# Altium footprint library Lib Marius.PcbLib: 393 footprints (part 11 of 25)
Each footprint in its own frame and in the unit in brackets; x right, y up, seen from the top. Pads: shape width x height; smd on the part's side, far side on the other; paste and mask are expansions set on the pad; w line width, h text height; cw(c..) or ccw(c..) is an arc to the next point about the centre after c.
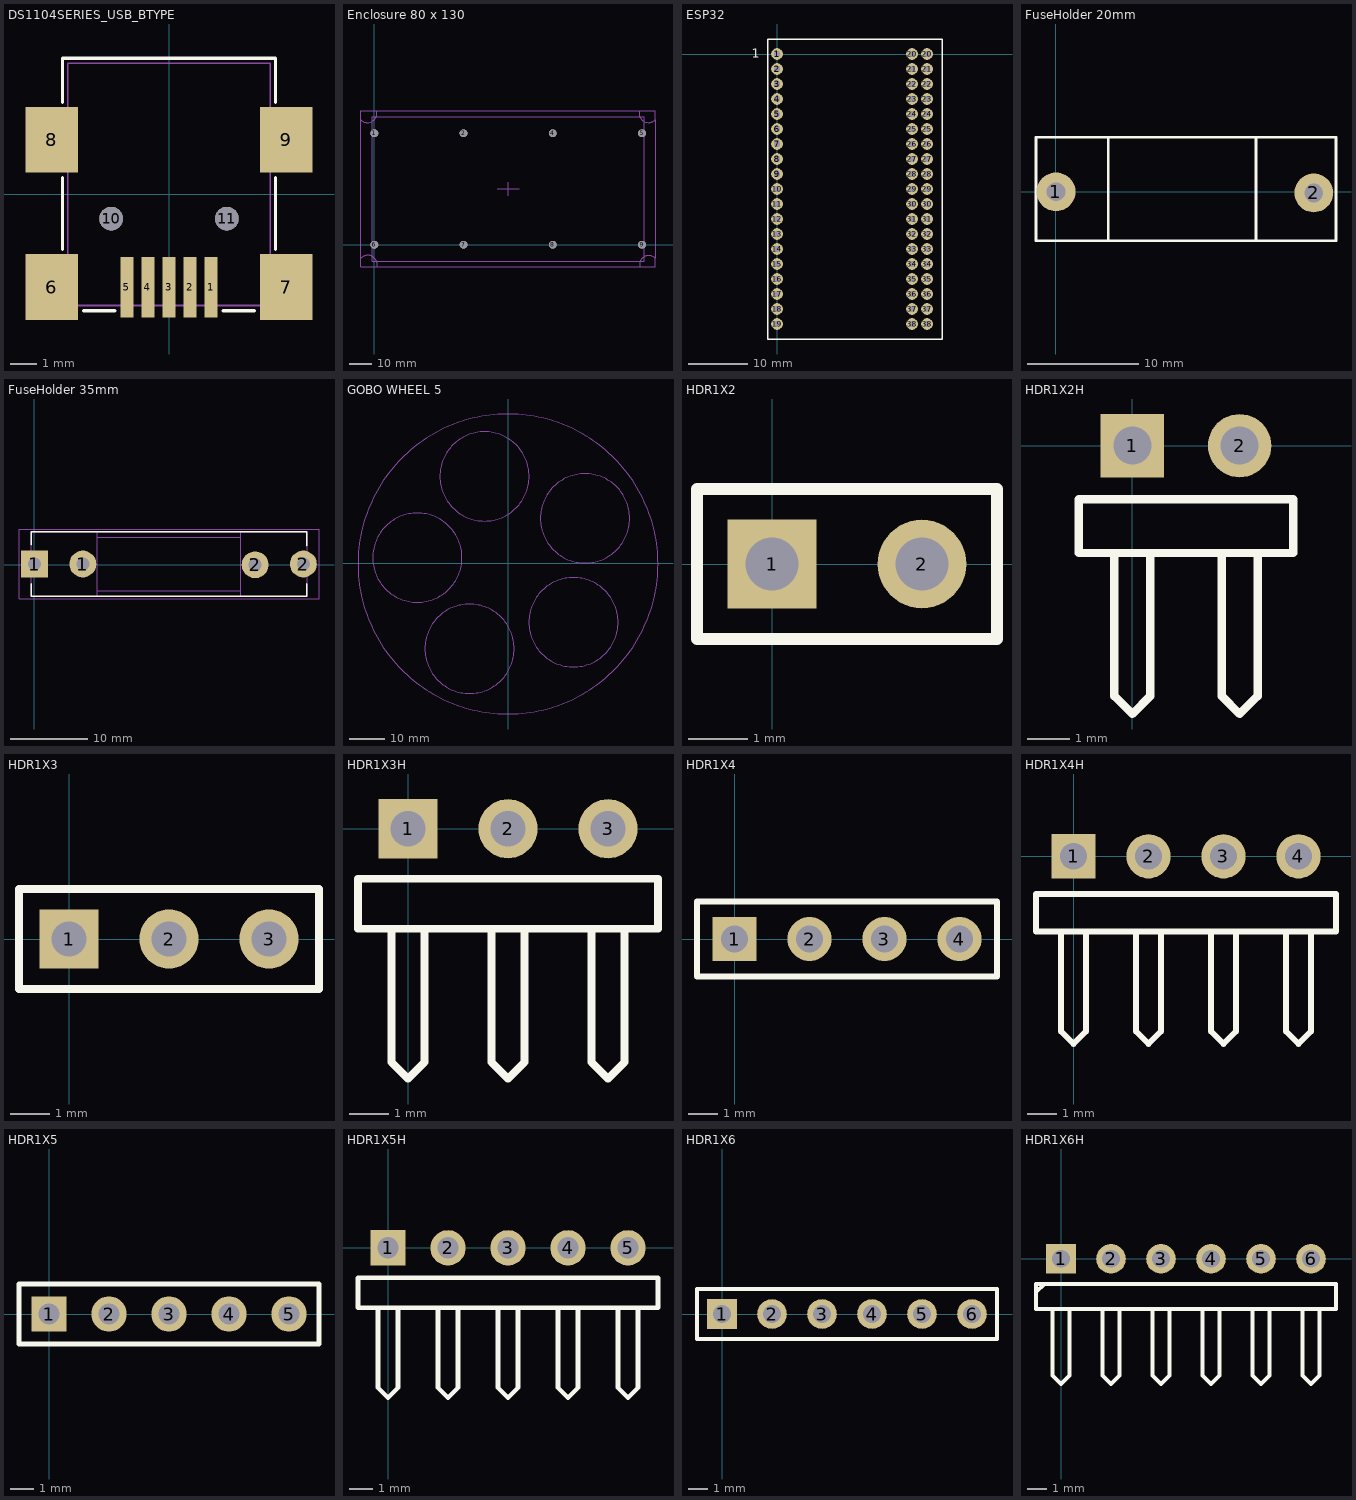
[diagram p10: the footprints below, top view; thin cyan lines are the x and y axes]

## DS1104SERIES_USB_BTYPE [mm]
pads (11):
  rect 0.5x2.3 smd mask+0: 1(1.6,-3.525) 2(0.8,-3.525) 3(0,-3.525) 4(-0.8,-3.525) 5(-1.6,-3.525)
  rect 2x2.5 smd mask+0: 6(-4.45,-3.525) 7(4.45,-3.525) 8(-4.45,2.075) 9(4.45,2.075)
  round 0.9 hole 0.9 unplated mask+0: 10(-2.2,-0.925) 11(2.2,-0.925)
Top Overlay:
  lines w0.127: -4.05,-2.1 -4.05,0.625 ; -4.05,3.5 -4.05,5.175 4.05,5.175 4.05,3.5 ; -3.25,-4.425 -2.05,-4.425 ; 2.05,-4.425 3.25,-4.425 ; 4.05,-2.1 4.05,0.625
Mechanical 13:
  lines w0.065: -3.85,-4.225 -3.85,4.975 3.85,4.975 3.85,-4.225 ; -3.85,-4.225 3.85,-4.225 ; -3.85,-4.225 -4.95,-4.225 -4.95,-3.975 ccw(c-4.95,-3.475) -4.45,-3.475 ccw(c-4.912,-3.437) -4.95,-2.975 -4.95,-2.725 -3.85,-2.725 -3.85,-4.225 ; 3.85,-4.225 3.85,-2.725 4.95,-2.725 4.95,-2.975 ccw(c4.962,-3.487) 4.45,-3.475 ccw(c4.962,-3.463) 4.95,-3.975 4.95,-4.225 3.85,-4.225 ; -4.95,1.275 -4.95,1.575 ccw(c-4.925,2) -4.5,2.025 ccw(c-4.9,2.075) -4.95,2.475 -4.95,2.775 -3.85,2.775 -3.85,1.275 -4.95,1.275 ; 3.85,1.275 3.85,2.775 4.95,2.775 4.95,2.525 ccw(c4.962,2.013) 4.45,2.025 ccw(c4.95,2.025) 4.95,1.525 4.95,1.275 3.85,1.275
  text ".Designator" at -3.425,-0.012 h0.69
3D body "mini-usb.stp": height 4.15, standoff -1, extent -4.925,-4.3 4.975,5

## Enclosure 80 x 130 [mm] "Mantech BMD60005"
height 0.5
pads (8):
  round 3.5 hole 3.5: 1(0,50) 2(40,50) 4(80,50) 5(120,50) 6(0,0) 7(40,0) 8(80,0) 9(120,0)
Mechanical 7:
  lines w0.254: 55,25 65,25 ; 60,22 60,28
Mechanical 16:
  lines w0.254: 1.02,60.025 cw(c-3.096,58.996) -6.096,55.996 -6.072,55.972 ; 118.798,60.028 ccw(c122.921,59.028) 125.921,56.028 125.921,59.979 125.872,60.028 118.776,60.028 1.015,60.028 -6.015,60.028 -6.018,60.025 -6.072,59.972 -6.072,55.972 ; 118.977,-9.902 cw(c123,-9) 125.915,-6.085 125.9,-6.1 125.9,-9.9 125.884,-9.916 118.977,-9.916 1.173,-9.916 ; 125.919,-6.082 125.919,56.018 ; -6.072,-6.031 cw(c-3,-9) 1.173,-9.916 ; -6.072,-6.031 -6.072,-9.9 1.157,-9.9 1.173,-9.916 ; -6.072,-6.031 -6.072,55.972 ; -1,-7.5 121,-7.5 121,57.5 -1,57.5 -1,-7.5

## ESP32 [mm] "Potentiometer Vertical"
height 6
pads (57):
  round 2 hole 1: 1(0,0) 2(0,-2.54) 3(0,-5.08) 4(0,-7.62) 5(0,-10.16) 6(0,-12.7) 7(0,-15.24) 8(0,-17.78) 9(0,-20.32) 10(0,-22.86) 11(0,-25.4) 12(0,-27.94) 13(0,-30.48) 14(0,-33.02) 15(0,-35.56) 16(0,-38.1) 17(0,-40.64) 18(0,-43.18) 19(0,-45.72) 20(22.86,0) 20(25.4,0) 21(22.86,-2.54) 21(25.4,-2.54) 22(22.86,-5.08) 22(25.4,-5.08) 23(22.86,-7.62) 23(25.4,-7.62) 24(22.86,-10.16) 24(25.4,-10.16) 25(22.86,-12.7) 25(25.4,-12.7) 26(22.86,-15.24) 26(25.4,-15.24) 27(22.86,-17.78) 27(25.4,-17.78) 28(22.86,-20.32) 28(25.4,-20.32) 29(22.86,-22.86) 29(25.4,-22.86) 30(22.86,-25.4) 30(25.4,-25.4) 31(22.86,-27.94) 31(25.4,-27.94) 32(22.86,-30.48) 32(25.4,-30.48) 33(22.86,-33.02) 33(25.4,-33.02) 34(22.86,-35.56) 34(25.4,-35.56) 35(22.86,-38.1) 35(25.4,-38.1) 36(22.86,-40.64) 36(25.4,-40.64) 37(22.86,-43.18) 37(25.4,-43.18) 38(22.86,-45.72) 38(25.4,-45.72)
Top Overlay:
  lines w0.254: -1.55,-48.26 -1.55,2.54 27.94,2.54 27.94,-48.26 -1.55,-48.26
  text "1" at -4.246,-0.646 h1.52
3D body "ESP32-DEVKITC-32D--3DModel-STEP-269445.STEP": height 6.69, standoff -6, extent -1.2,-47.7 26.74,7.4

## FuseHolder 20mm [mm] "Fuse holder for Kingstone 3AG fuse 1/4\" x 1 1/4\""
height 11.5
pads (2):
  round 3.5 hole 1.7: 1(0,0) 2(23.2,-0.1)
Top Overlay:
  lines w0.254: 4.7,-4.3 4.7,4.8 ; 18,-4.3 18,4.8 ; 25.2,0.9 25.2,-4.4 -1.8,-4.4 -1.8,4.9 25.2,4.9 25.2,1
3D body "Fuse_Holder.STEP": height 4.4, standoff -14.44, extent 0.36,-4.3 23.52,4.7

## FuseHolder 35mm [mm] "Fuse holder for Kingstone 3AG fuse 1/4\" x 1 1/4\""
height 11.5
pads (4):
  rect 3.5x3.5 hole 1.7: 1(0.038,0.1)
  round 3.5 hole 1.7: 1(6.3,0.1) 2(28.7,0) 2(34.963,0.1)
Top Overlay:
  lines w0.2: -0.4,-2.5 -0.4,-4.1 35.4,-4.1 35.4,-2.5 ; -0.4,2.6 -0.4,4.3 35.4,4.3 35.4,2.5
Mechanical 13:
  lines w0.1: 8.1,4.3 8.2,4.3 8.2,-4.1 ; 8.2,-3.4 26.8,-3.4 ; 8.2,3.6 26.8,3.6 ; 26.8,-4.1 26.8,4.3 ; -0.4,-4.1 -0.4,4.3 35.5,4.3 35.5,-4.1 -0.4,-4.1
Mechanical 15:
  lines w0.1: -2,-4.4 -2,4.6 37,4.6 37,-4.4 -2,-4.4
3D body "keystone_3AG.STEP": height 11.74, standoff -3.28, extent -0.419,-4.221 35.419,4.19

## GOBO WHEEL 5 [mm] "Gobo Magazine"
height 5.46
Mechanical 2:
  circle w0.254: c-0.008,-0.212 r42
  circle w0.254: c-6.585,24.318 r12.5
  circle w0.254: c-25.39,1.56 r12.5
  circle w0.254: c21.563,12.58 r12.5
  circle w0.254: c-10.777,-23.952 r12.5
  circle w0.254: c18.329,-16.526 r12.5

## HDR1X2 [mm] "Connector; Header; 2 Position"
pads (2):
  rect 1.5x1.5 hole 0.9: 1(0,0)
  round 1.5 hole 0.9: 2(2.54,0)
Top Overlay:
  lines w0.2: -1.27,-1.27 3.81,-1.27 3.81,1.27 -1.27,1.27 -1.27,-1.27

## HDR1X2H [mm] "Connector; Header; 2 Position; Right Angle"
pads (2):
  rect 1.5x1.5 hole 0.9: 1(0,0)
  round 1.5 hole 0.9: 2(2.54,0)
Top Overlay:
  lines w0.2: -0.423,-2.54 -0.423,-5.927 0,-6.35 0.423,-5.927 0.423,-2.54 ; 2.117,-2.54 2.117,-5.927 2.54,-6.35 2.963,-5.927 2.963,-2.54 ; -1.27,-2.54 3.81,-2.54 3.81,-1.27 -1.27,-1.27 -1.27,-2.54

## HDR1X3 [mm] "Connector; Header; 3 Position"
pads (3):
  rect 1.5x1.5 hole 0.9: 1(0,0)
  round 1.5 hole 0.9: 2(2.54,0) 3(5.08,0)
Top Overlay:
  lines w0.2: -1.27,-1.27 -1.27,1.27 6.35,1.27 6.35,-1.27 -1.27,-1.27

## HDR1X3H [mm] "Connector; Header; 3 Position; Right Angle"
pads (3):
  rect 1.5x1.5 hole 0.9: 1(0,0)
  round 1.5 hole 0.9: 2(2.54,0) 3(5.08,0)
Top Overlay:
  lines w0.2: -0.423,-2.54 -0.423,-5.927 0,-6.35 0.423,-5.927 0.423,-2.54 ; 2.117,-2.54 2.117,-5.927 2.54,-6.35 2.963,-5.927 2.963,-2.54 ; 4.657,-2.54 4.657,-5.927 5.08,-6.35 5.503,-5.927 5.503,-2.54 ; -1.27,-2.54 -1.27,-1.27 6.35,-1.27 6.35,-2.54 -1.27,-2.54

## HDR1X4 [mm] "Connector; Header; 4 Position"
pads (4):
  rect 1.5x1.5 hole 0.9: 1(0,0)
  round 1.5 hole 0.9: 2(2.54,0) 3(5.08,0) 4(7.62,0)
Top Overlay:
  lines w0.2: -1.27,-1.27 8.89,-1.27 8.89,1.27 -1.27,1.27 -1.27,-1.27

## HDR1X4H [mm] "Connector; Header; 4 Position; Right Angle"
pads (4):
  rect 1.5x1.5 hole 0.9: 1(0,0)
  round 1.5 hole 0.9: 2(2.54,0) 3(5.08,0) 4(7.62,0)
Top Overlay:
  lines w0.2: -0.423,-2.54 -0.423,-5.927 0,-6.35 0.423,-5.927 0.423,-2.54 ; 2.117,-2.54 2.117,-5.927 2.54,-6.35 2.963,-5.927 2.963,-2.54 ; 4.657,-2.54 4.657,-5.927 5.08,-6.35 5.503,-5.927 5.503,-2.54 ; 7.197,-2.54 7.197,-5.927 7.62,-6.35 8.043,-5.927 8.043,-2.54 ; -1.27,-2.54 8.89,-2.54 8.89,-1.27 -1.27,-1.27 -1.27,-2.54

## HDR1X5 [mm] "Connector; Header; 5 Position"
pads (5):
  rect 1.5x1.5 hole 0.9: 1(0,0)
  round 1.5 hole 0.9: 2(2.54,0) 3(5.08,0) 4(7.62,0) 5(10.16,0)
Top Overlay:
  lines w0.2: -1.27,-1.27 -1.27,1.27 11.43,1.27 11.43,-1.27 -1.27,-1.27

## HDR1X5H [mm] "Connector; Header; 5 Position; Right Angle"
pads (5):
  rect 1.5x1.5 hole 0.9: 1(0,0)
  round 1.5 hole 0.9: 2(2.54,0) 3(5.08,0) 4(7.62,0) 5(10.16,0)
Top Overlay:
  lines w0.2: -0.423,-2.54 -0.423,-5.927 0,-6.35 0.423,-5.927 0.423,-2.54 ; 2.117,-2.54 2.117,-5.927 2.54,-6.35 2.963,-5.927 2.963,-2.54 ; 4.657,-2.54 4.657,-5.927 5.08,-6.35 5.503,-5.927 5.503,-2.54 ; 7.197,-2.54 7.197,-5.927 7.62,-6.35 8.043,-5.927 8.043,-2.54 ; 9.737,-2.54 9.737,-5.927 10.16,-6.35 10.583,-5.927 10.583,-2.54 ; -1.27,-2.54 -1.27,-1.27 11.43,-1.27 11.43,-2.54 -1.27,-2.54

## HDR1X6 [mm] "Connector; Header; 6 Position"
pads (6):
  rect 1.5x1.5 hole 0.9: 1(0,0)
  round 1.5 hole 0.9: 2(2.54,0) 3(5.08,0) 4(7.62,0) 5(10.16,0) 6(12.7,0)
Top Overlay:
  lines w0.2: -1.27,-1.27 -1.27,1.27 13.97,1.27 13.97,-1.27 -1.27,-1.27

## HDR1X6H [mm] "Connector; Header; 6 Position; Right Angle"
pads (6):
  rect 1.5x1.5 hole 0.9: 1(0,0)
  round 1.5 hole 0.9: 2(2.54,0) 3(5.08,0) 4(7.62,0) 5(10.16,0) 6(12.7,0)
Top Overlay:
  lines w0.2: -1.27,-1.693 -0.847,-1.27 ; -0.423,-2.54 -0.423,-5.927 0,-6.35 0.423,-5.927 0.423,-2.54 ; 2.117,-2.54 2.117,-5.927 2.54,-6.35 2.963,-5.927 2.963,-2.54 ; 4.657,-2.54 4.657,-5.927 5.08,-6.35 5.503,-5.927 5.503,-2.54 ; 7.197,-2.54 7.197,-5.927 7.62,-6.35 8.043,-5.927 8.043,-2.54 ; 9.737,-2.54 9.737,-5.927 10.16,-6.35 10.583,-5.927 10.583,-2.54 ; 12.277,-2.54 12.277,-5.927 12.7,-6.35 13.123,-5.927 13.123,-2.54 ; -1.27,-2.54 13.97,-2.54 13.97,-1.27 -1.27,-1.27 -1.27,-2.54